# EAGLE library part MCM6706R (library memory-sram)
MEMORY
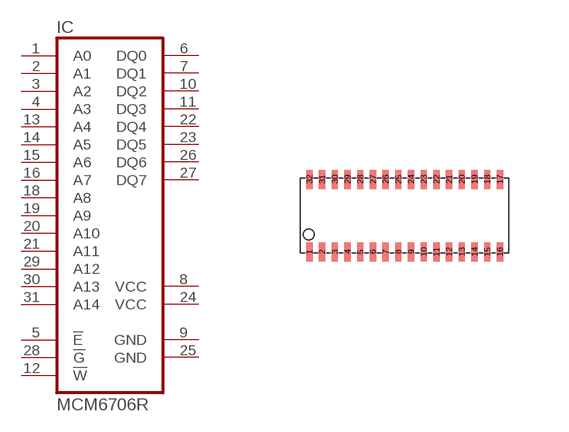
[diagram p24: symbol with the pads of SOJ32/3; footprint SOJ32/3]

Designator prefix IC

## MCM6706R  [SOJ32/3]
1  A0  in
2  A1  in
3  A2  in
4  A3  in
5  !E  in
6  DQ0
7  DQ1
8  VCC  pwr
9  GND  pwr
10  DQ2
11  DQ3
12  !W  in
13  A4  in
14  A5  in
15  A6  in
16  A7  in
18  A8  in
19  A9  in
20  A10  in
21  A11  in
22  DQ4
23  DQ5
24  VCC  pwr
25  GND  pwr
26  DQ6
27  DQ7
28  !G  in
29  A12  in
30  A13  in
31  A14  in

## Footprint SOJ32/3 (pad centres in mm)
Small Outline J-Bend
smd 0.159 x 0.476: 1 -2.381,-0.908; 2 -2.064,-0.908; 3 -1.746,-0.908; 4 -1.429,-0.908; 5 -1.111,-0.908; 6 -0.794,-0.908; 7 -0.476,-0.908; 8 -0.159,-0.908; 9 0.159,-0.908; 10 0.476,-0.908; 11 0.794,-0.908; 12 1.111,-0.908; 13 1.429,-0.908; 14 1.746,-0.908; 15 2.064,-0.908; 16 2.381,-0.908; 17 2.381,0.908; 18 2.064,0.908; 19 1.746,0.908; 20 1.429,0.908; 21 1.111,0.908; 22 0.794,0.908; 23 0.476,0.908; 24 0.159,0.908; 25 -0.159,0.908; 26 -0.476,0.908; 27 -0.794,0.908; 28 -1.111,0.908; 29 -1.429,0.908; 30 -1.746,0.908; 31 -2.064,0.908; 32 -2.381,0.908